# Altium schematic symbol library MiscLib.SchLib: 6 symbols
Pins are listed as number, name and electrical type; pins without a type are passive.

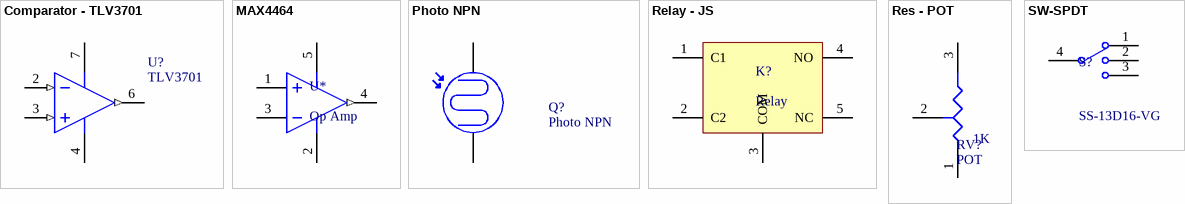
[diagram p0: symbols Comparator - TLV3701 to SW-SPDT]

## Comparator - TLV3701
designator U?, comment TLV3701
Comparator
footprint DIP-8 (DIP, 8-Pin, Row Spacing 7.62 mm, Pitch 2.54 mm)
pins: 1 NC hidden, 2 IN- (in), 3 IN+ (in), 4 V- (power), 5 NC hidden, 6 OUT (out), 7 V+ (power), 8 NC hidden

## MAX4464
designator U*, comment Op Amp
Rail-to-Rail Op Amps (750 nA, 40 kHz GBW)
footprint SC70-5
pins: 1 IN+, 2 Vss (power), 3 IN-, 4 OUT (out), 5 Vdd (power)

## Photo NPN
designator Q?
Photo Resisitor
footprint Photo Resistor
pins: 1 C, 2 E

## Relay - JS
designator K?, comment Relay
footprint RELAY - JS (Panasonic Relay)
pins: 1 C1, 2 C2, 3 COM, 4 NO, 5 NC

## Res - POT
designator RV?, comment POT  value 1K
Tapped Resistor; Digi-Key Part Number: 3386P-203LF-ND
footprint Potentiometer (3386P-203LF-ND - Square - 0.375" L x 0.375" W x 0.190" H - 3386 Series)
pins: 1 A, 2 TAP, 3 B

## SW-SPDT
designator S?, comment SS-13D16-VG
SP3T SWITCH SLIDE SP3T 0.3A 30V; Manufacturer Part Number: SS-13D16-VG 4 PA; Manufacturer: C&K Components; Digi-Key Part Number: CKN10371-ND; Note: *
footprint SWITCH - SP3T - SLIDE (SWITCH SLIDE SP3T 0.3A 30V - C&K Components - SS-13D16-VG 4 PA)
pins: 1, 2, 3, 4